# Altium schematic symbol library ConnectorsGOST.SchLib: 21 symbols
Pins are listed as number, name and electrical type; pins without a type are passive.

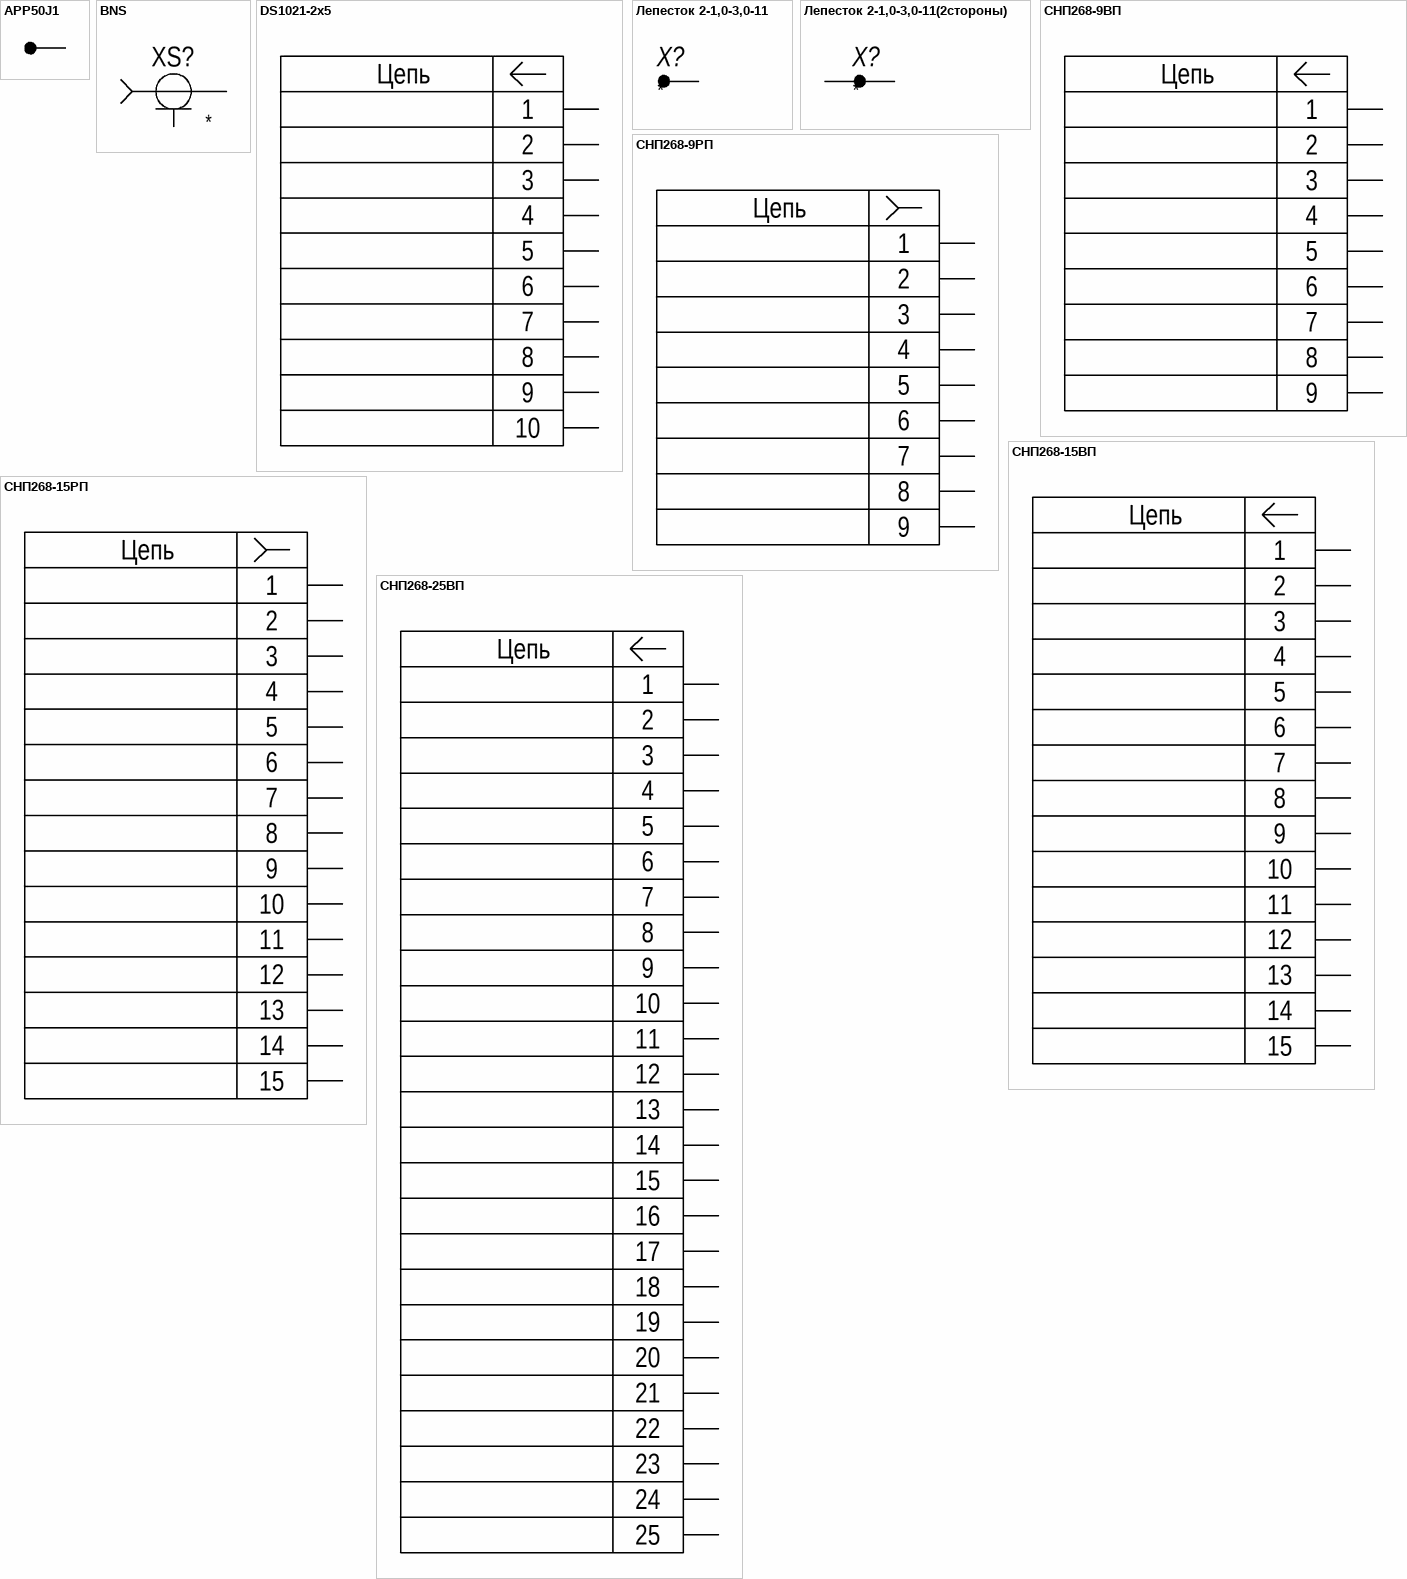
[diagram p0: symbols APP50J1 to СНП268-25ВП]

## APP50J1
designator X?  (value not drawn)
pins: 1

## BNS
designator XS?
pins: 1, 2

## DS1021-2x5
designator XP?  (value not drawn)
pins: 1, 2, 3, 4, 5, 6, 7, 8, 9, 10
text: Цепь

## Лепесток 2-1,0-3,0-11
designator X?
pins: 1

## Лепесток 2-1,0-3,0-11(2стороны)
designator X?
pins: 1, 2

## СНП268-9ВП
designator XP?  (value not drawn)
pins: 1, 2, 3, 4, 5, 6, 7, 8, 9
text: Цепь

## СНП268-9РП
designator XS?  (value not drawn)
pins: 1, 2, 3, 4, 5, 6, 7, 8, 9
text: Цепь

## СНП268-15ВП
designator XP?  (value not drawn)
pins: 1, 2, 3, 4, 5, 6, 7, 8, 9, 10, 11, 12, 13, 14, 15
text: Цепь

## СНП268-15РП
designator XS?  (value not drawn)
pins: 1, 2, 3, 4, 5, 6, 7, 8, 9, 10, 11, 12, 13, 14, 15
text: Цепь

## СНП268-25ВП
designator XP?  (value not drawn)
pins: 1, 2, 3, 4, 5, 6, 7, 8, 9, 10, 11, 12, 13, 14, 15, 16, 17, 18, 19, 20, 21, 22, 23, 24, 25
text: Цепь

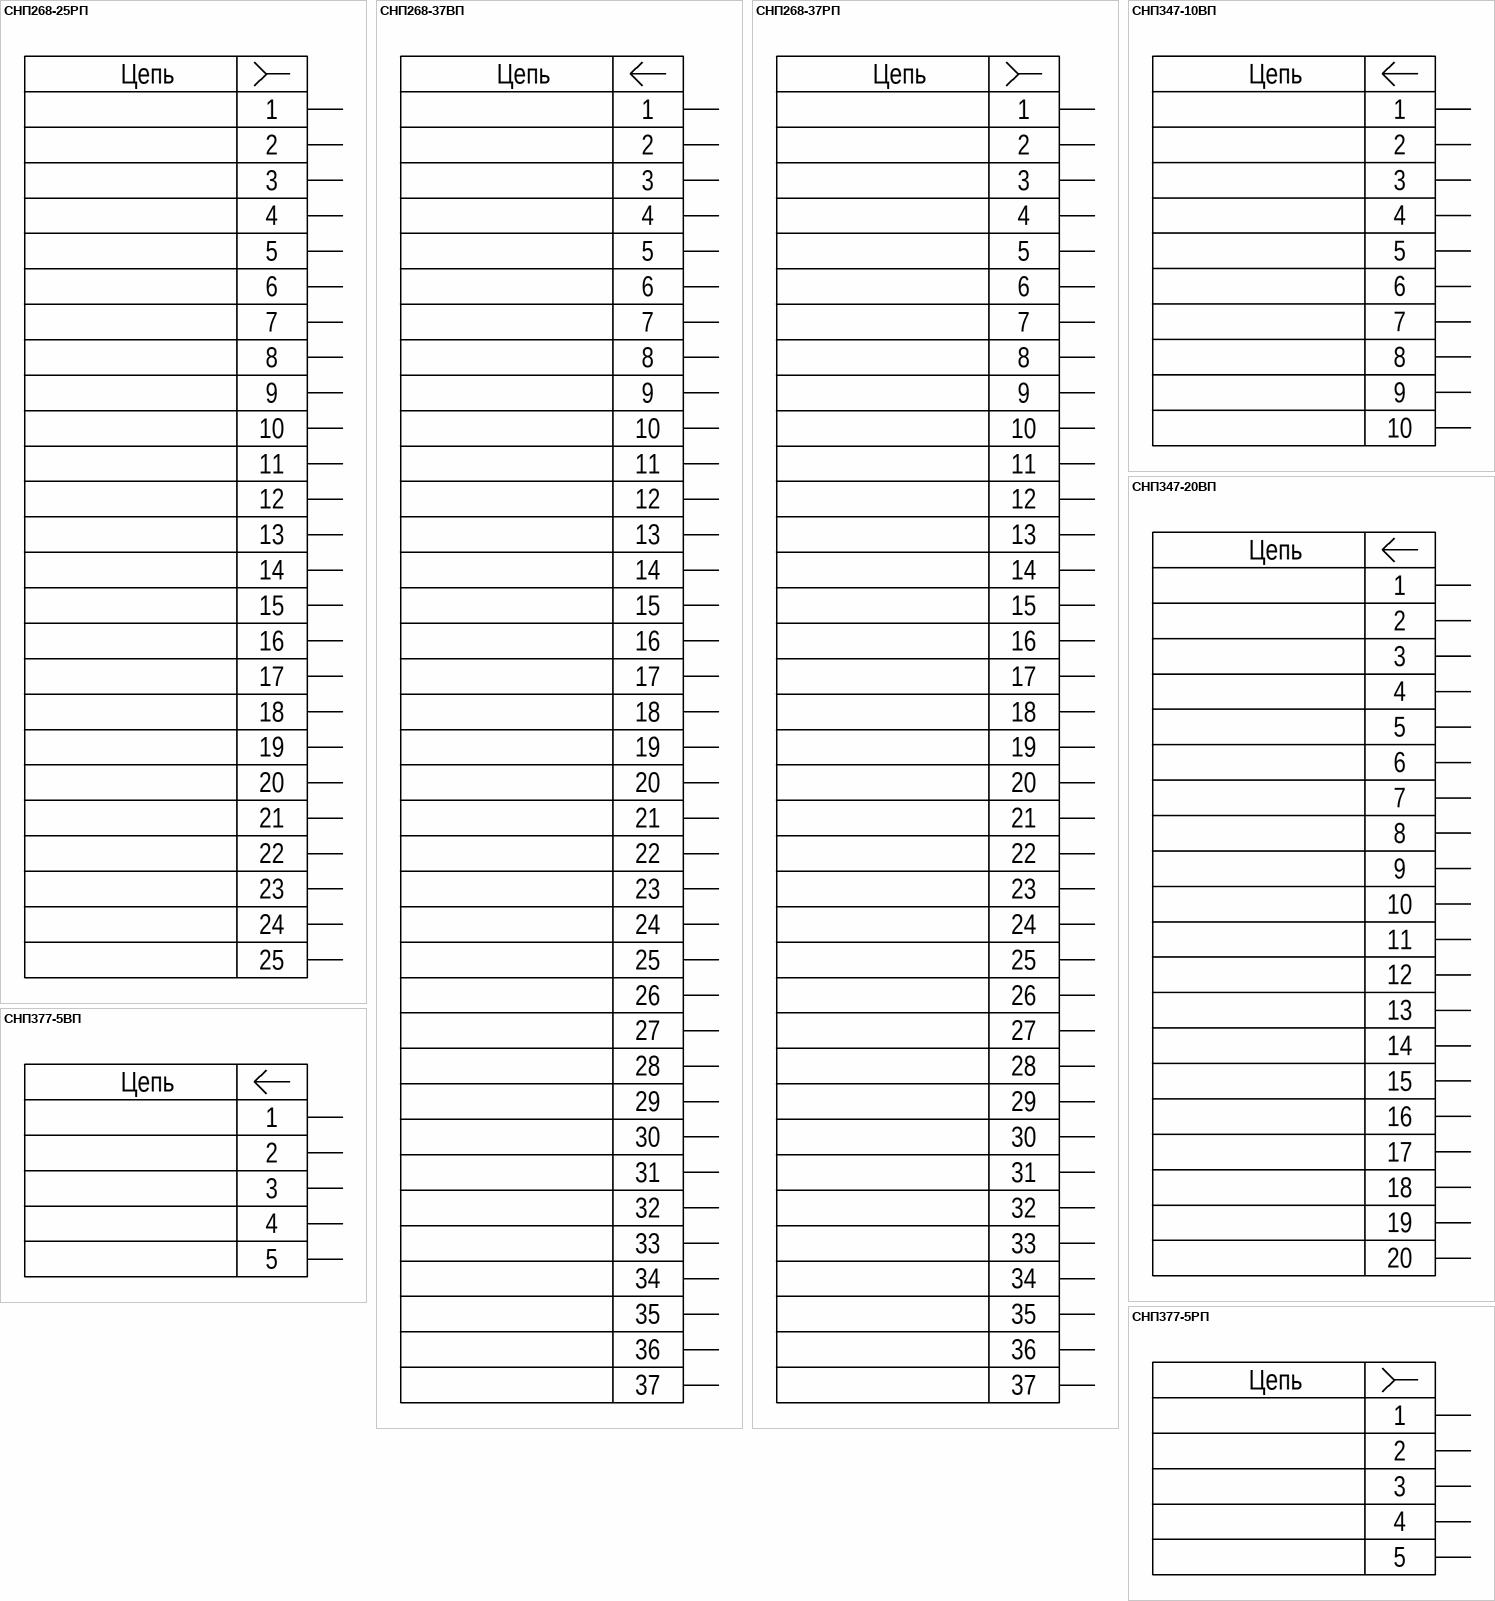
[diagram p1: symbols СНП268-25РП to СНП377-5РП]

## СНП268-25РП
designator XS?  (value not drawn)
pins: 1, 2, 3, 4, 5, 6, 7, 8, 9, 10, 11, 12, 13, 14, 15, 16, 17, 18, 19, 20, 21, 22, 23, 24, 25
text: Цепь

## СНП268-37ВП
designator XP?  (value not drawn)
pins: 1, 2, 3, 4, 5, 6, 7, 8, 9, 10, 11, 12, 13, 14, 15, 16, 17, 18, 19, 20, 21, 22, 23, 24, 25, 26, 27, 28, 29, 30, 31, 32, 33, 34, 35, 36, 37
text: Цепь

## СНП268-37РП
designator XS?  (value not drawn)
pins: 1, 2, 3, 4, 5, 6, 7, 8, 9, 10, 11, 12, 13, 14, 15, 16, 17, 18, 19, 20, 21, 22, 23, 24, 25, 26, 27, 28, 29, 30, 31, 32, 33, 34, 35, 36, 37
text: Цепь

## СНП347-10ВП
designator XP?  (value not drawn)
pins: 1, 2, 3, 4, 5, 6, 7, 8, 9, 10
text: Цепь

## СНП347-20ВП
designator XP?  (value not drawn)
pins: 1, 2, 3, 4, 5, 6, 7, 8, 9, 10, 11, 12, 13, 14, 15, 16, 17, 18, 19, 20
text: Цепь

## СНП377-5ВП
designator XP?  (value not drawn)
pins: 1, 2, 3, 4, 5
text: Цепь

## СНП377-5РП
designator XS?  (value not drawn)
pins: 1, 2, 3, 4, 5
text: Цепь

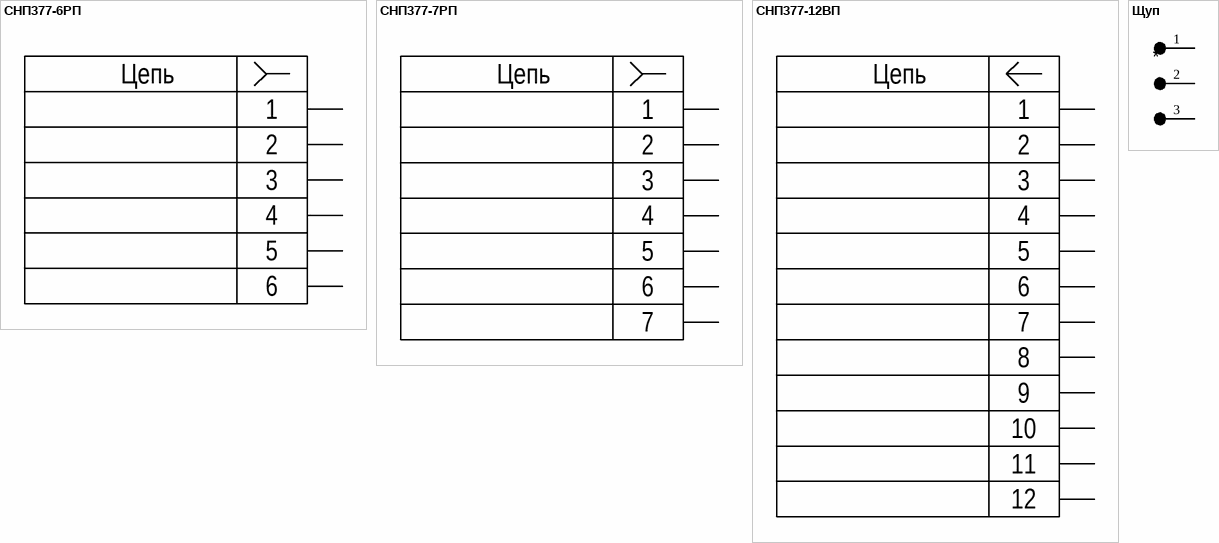
[diagram p2: symbols СНП377-6РП to Щуп]

## СНП377-6РП
designator XS?  (value not drawn)
pins: 1, 2, 3, 4, 5, 6
text: Цепь

## СНП377-7РП
designator XS?  (value not drawn)
pins: 1, 2, 3, 4, 5, 6, 7
text: Цепь

## СНП377-12ВП
designator XP?  (value not drawn)
pins: 1, 2, 3, 4, 5, 6, 7, 8, 9, 10, 11, 12
text: Цепь

## Щуп
designator ?  (no BOM)
pins: 1, 2, 3